# EAGLE library part MC9S08SH4 (library Freescale)
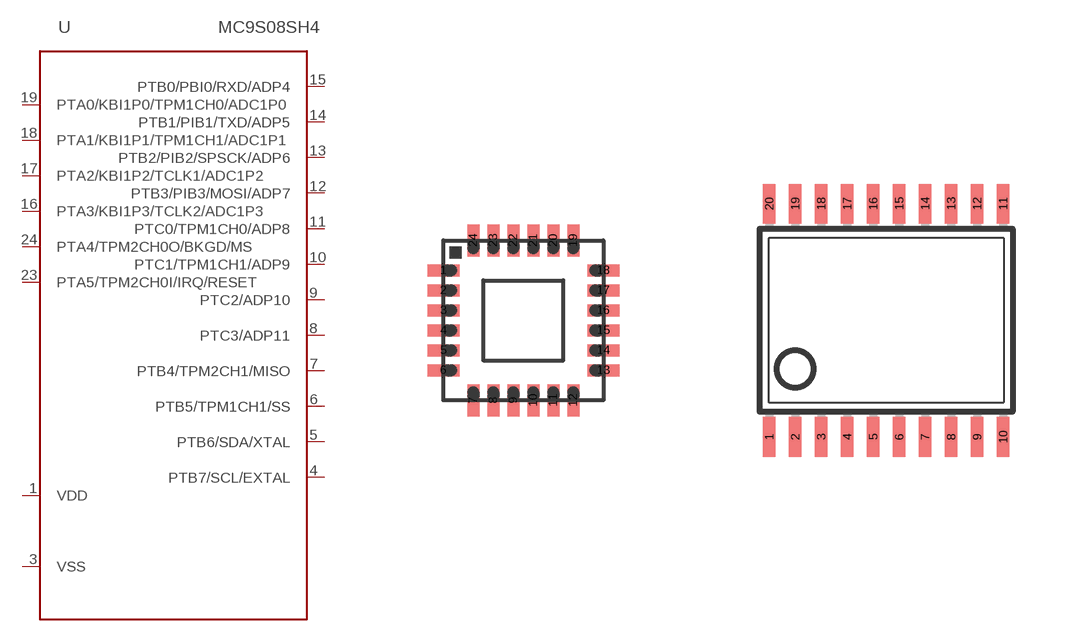
[diagram p6: symbol with the pads of QFN-24; footprints QFN-24, TSSOP20]

Designator prefix -

## MC9S08SH4FK  [QFN-24]
1  VDD
3  VSS
4  PTB7/SCL/EXTAL
5  PTB6/SDA/XTAL
6  PTB5/TPM1CH1/SS
7  PTB4/TPM2CH1/MISO
8  PTC3/ADP11
9  PTC2/ADP10
10  PTC1/TPM1CH1/ADP9
11  PTC0/TPM1CH0/ADP8
12  PTB3/PIB3/MOSI/ADP7
13  PTB2/PIB2/SPSCK/ADP6
14  PTB1/PIB1/TXD/ADP5
15  PTB0/PBI0/RXD/ADP4
16  PTA3/KBI1P3/TCLK2/ADC1P3
17  PTA2/KBI1P2/TCLK1/ADC1P2
18  PTA1/KBI1P1/TPM1CH1/ADC1P1
19  PTA0/KBI1P0/TPM1CH0/ADC1P0
23  PTA5/TPM2CH0I/IRQ/RESET
24  PTA4/TPM2CH0O/BKGD/MS

## MC9S08SH4TJ  [TSSOP20]
1  PTA5/TPM2CH0I/IRQ/RESET
2  PTA4/TPM2CH0O/BKGD/MS
3  VDD
4  VSS
5  PTB7/SCL/EXTAL
6  PTB6/SDA/XTAL
7  PTB5/TPM1CH1/SS
8  PTB4/TPM2CH1/MISO
9  PTC3/ADP11
10  PTC2/ADP10
11  PTC1/TPM1CH1/ADP9
12  PTC0/TPM1CH0/ADP8
13  PTB3/PIB3/MOSI/ADP7
14  PTB2/PIB2/SPSCK/ADP6
15  PTB1/PIB1/TXD/ADP5
16  PTB0/PBI0/RXD/ADP4
17  PTA3/KBI1P3/TCLK2/ADC1P3
18  PTA2/KBI1P2/TCLK1/ADC1P2
19  PTA1/KBI1P1/TPM1CH1/ADC1P1
20  PTA0/KBI1P0/TPM1CH0/ADC1P0

## Footprint QFN-24 (pad centres in mm)
smd 0.8 x 0.3: 1 -2.5,1.75; 2 -2.5,1.25; 3 -2.5,0.75; 4 -2.5,0.25; 5 -2.5,-0.25; 6 -2.5,-0.75; 13 1.5,-0.75; 14 1.5,-0.25; 15 1.5,0.25; 16 1.5,0.75; 17 1.5,1.25; 18 1.5,1.75
smd 0.3 x 0.8: 7 -1.75,-1.5; 8 -1.25,-1.5; 9 -0.75,-1.5; 10 -0.25,-1.5; 11 0.25,-1.5; 12 0.75,-1.5; 19 0.75,2.5; 20 0.25,2.5; 21 -0.25,2.5; 22 -0.75,2.5; 23 -1.25,2.5; 24 -1.75,2.5

## Footprint TSSOP20 (pad centres in mm)
Thin Shrink Small Outline Plastic 20 MAX3223-MAX3243.pdf
smd 0.305 x 0.991: 1 -2.925,-2.918; 2 -2.275,-2.918; 3 -1.625,-2.918; 4 -0.975,-2.918; 5 -0.325,-2.918; 6 0.325,-2.918; 7 0.975,-2.918; 8 1.625,-2.918; 9 2.275,-2.918; 10 2.925,-2.918; 11 2.925,2.918; 12 2.275,2.918; 13 1.625,2.918; 14 0.975,2.918; 15 0.325,2.918; 16 -0.325,2.918; 17 -0.975,2.918; 18 -1.625,2.918; 19 -2.275,2.918; 20 -2.925,2.918